# Altium footprint library SOT-23-8.PcbLib: 1 footprints
Each footprint in its own frame and in the unit in brackets; x right, y up, seen from the top. Pads: shape width x height; smd on the part's side, far side on the other; paste and mask are expansions set on the pad; w line width, h text height; cw(c..) or ccw(c..) is an arc to the next point about the centre after c.
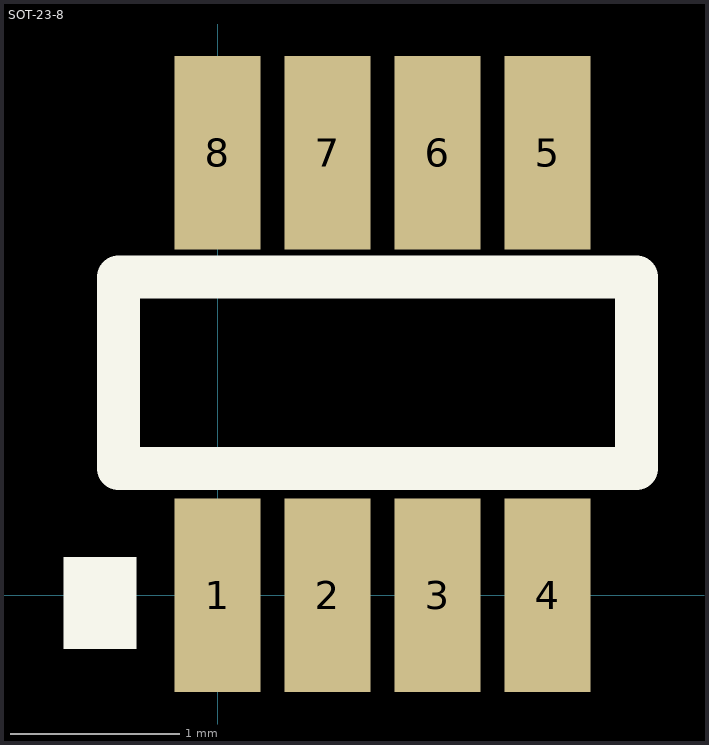
[diagram p0: the footprint, top view; thin cyan lines are the x and y axes]

## SOT-23-8 [mil]
height 120
pads (8):
  rect 20x45 smd: 1(0,0) 2(25.59,0) 3(51.18,0) 4(76.77,0) 5(76.77,102.99) 6(51.18,102.99) 7(25.59,102.99) 8(0,102.99)
TopOverlay:
  rectangle: -35.83,-12.48 -18.82,8.9
  lines w10: -23,29.57 97.4,29.57 97.4,74 -23,74 -23,29.57
Mechanical4:
  text ".044" at 0,0 h1
3D body: height 39.37, standoff 0, extent -18.95,-3.32 95.23,106.91